# Altium integrated library TI_Logic_Specialty_Logic.IntLib: 2504 symbols (part 16 of 81)
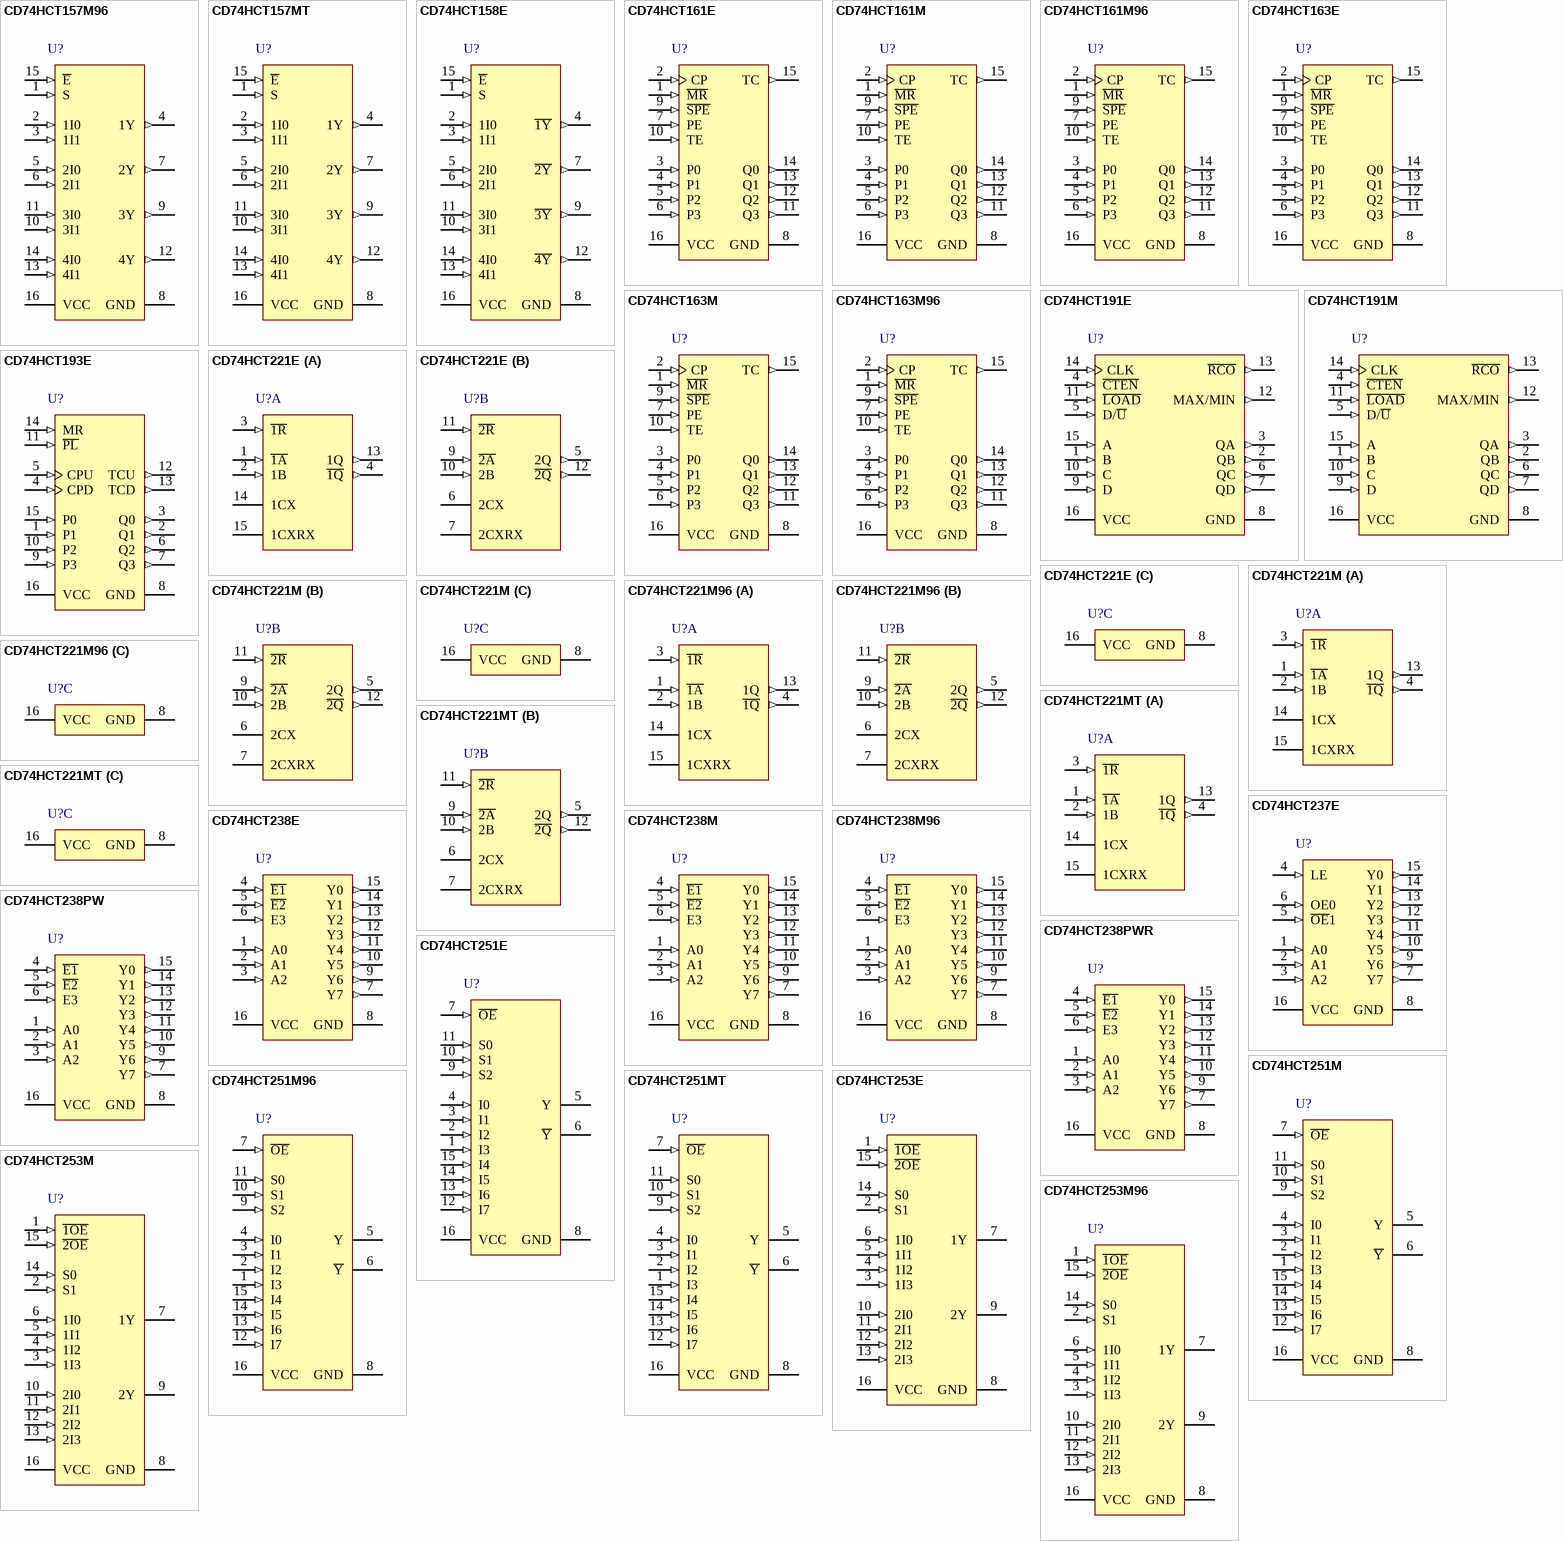
[diagram p119: symbols CD74HCT157M96 to CD74HCT253M96]

## CD74HCT238E
designator U?
High Speed CMOS Logic 3-to-8 Line Decoder Demultiplexer Inverting and Non-Inverting, N0016A, TUBE; Generic Part Number: CD74HCT238; Manufacturer: Texas Instruments; PartNumber: CD74HCT238E; VCC(Min)(V): 4.5; VCC(Max)(V): 5.5; Function: Decoder/Demultiplexer; ICC @ Nom Voltage(Max)(mA): 0.08; Input Type: TTL; Bits(#): 8; F @ Nom Voltage(Max)(Mhz): 25; Configuration: 3：8; Channels(#): 1; Rating: Catalog; Technology Family: HCT; Voltage(Nom)(V): 5; Schmitt Trigger: No; Output Drive (IOL/IOH)(Max)(mA): 4/-4; tpd @ Nom Voltage(Max)(ns): 35; DatasheetVersion: SCHS147I; PackageReference: N0016A; Supplier 1: Mouser; Supplier Part Number 1: 595-CD74HCT238E; Supplier 2: Digi-Key; Supplier Part Number 2: 296-2143-5-ND; Output Type: CMOS; Operating Temperature Range(C): -55 to 125; Type: Standard; Code_JEDEC: MS-001; ComponentLink1Description: Manufacturer URL; ComponentLink1URL: http://www.ti.com/; ComponentLink2Description: Datasheet; ComponentLink2URL: http://www.ti.com/lit/ds/symlink/cd74hct238.pdf; ComponentLink3Description: Package Specification; ComponentLink3URL: http://www.ti.com/lit/ml/mpdi002c/mpdi002c.pdf
footprint N0016A (DIP, 16-Leads, Body 19.7x6.6mm, Pitch 2.54mm)
pins: 1 A0 (in), 2 A1 (in), 3 A2 (in), 4 ~{E1} (in), 5 ~{E2} (in), 6 E3 (in), 7 Y7 (out), 8 GND (power), 9 Y6 (out), 10 Y5 (out), 11 Y4 (out), 12 Y3 (out), 13 Y2 (out), 14 Y1 (out), 15 Y0 (out), 16 VCC (power)

## CD74HCT238M
designator U?
High Speed CMOS Logic 3-to-8 Line Decoder Demultiplexer Inverting and Non-Inverting, D0016A, TUBE; Generic Part Number: CD74HCT238; Manufacturer: Texas Instruments; PartNumber: CD74HCT238M; VCC(Min)(V): 4.5; VCC(Max)(V): 5.5; Function: Decoder/Demultiplexer; ICC @ Nom Voltage(Max)(mA): 0.08; Input Type: TTL; Bits(#): 8; F @ Nom Voltage(Max)(Mhz): 25; Configuration: 3：8; Channels(#): 1; Rating: Catalog; Technology Family: HCT; Voltage(Nom)(V): 5; Schmitt Trigger: No; Output Drive (IOL/IOH)(Max)(mA): 4/-4; tpd @ Nom Voltage(Max)(ns): 35; DatasheetVersion: SCHS147I; PackageReference: D0016A; Supplier 1: Mouser; Supplier Part Number 1: 595-CD74HCT238M; Supplier 2: Digi-Key; Supplier Part Number 2: 296-26024-5-ND; Output Type: CMOS; Operating Temperature Range(C): -55 to 125; Type: Standard; Code_JEDEC: MS-012 variation AC; ComponentLink1Description: Manufacturer URL; ComponentLink1URL: http://www.ti.com/; ComponentLink2Description: Datasheet; ComponentLink2URL: http://www.ti.com/lit/ds/symlink/cd74hct238.pdf; ComponentLink3Description: Package Specification; ComponentLink3URL: http://www.ti.com/lit/ml/mpds178g/mpds178g.pdf
footprint D0016A_N (SOIC, 16-Leads, Body 10x4mm, Pitch 1.27mm, IPC Medium Density)
footprint D0016A_M (SOIC, 16-Leads, Body 10x4mm, Pitch 1.27mm, IPC Low Density)
footprint D0016A_L (SOIC, 16-Leads, Body 10x4mm, Pitch 1.27mm, IPC High Density)
pins: 1 A0 (in), 2 A1 (in), 3 A2 (in), 4 ~{E1} (in), 5 ~{E2} (in), 6 E3 (in), 7 Y7 (out), 8 GND (power), 9 Y6 (out), 10 Y5 (out), 11 Y4 (out), 12 Y3 (out), 13 Y2 (out), 14 Y1 (out), 15 Y0 (out), 16 VCC (power)

## CD74HCT238M96
designator U?
High Speed CMOS Logic 3-to-8 Line Decoder Demultiplexer Inverting and Non-Inverting, D0016A, LARGE T&R; Generic Part Number: CD74HCT238; Manufacturer: Texas Instruments; PartNumber: CD74HCT238M96; VCC(Min)(V): 4.5; VCC(Max)(V): 5.5; Function: Decoder/Demultiplexer; ICC @ Nom Voltage(Max)(mA): 0.08; Input Type: TTL; Bits(#): 8; F @ Nom Voltage(Max)(Mhz): 25; Configuration: 3：8; Channels(#): 1; Rating: Catalog; Technology Family: HCT; Voltage(Nom)(V): 5; Schmitt Trigger: No; Output Drive (IOL/IOH)(Max)(mA): 4/-4; tpd @ Nom Voltage(Max)(ns): 35; DatasheetVersion: SCHS147I; PackageReference: D0016A; Supplier 1: Mouser; Supplier Part Number 1: 595-CD74HCT238M96; Supplier 2: Digi-Key; Supplier Part Number 2: 296-17124-2-ND; Supplier 3: Digi-Key; Supplier Part Number 3: 296-17124-1-ND; Output Type: CMOS; Operating Temperature Range(C): -55 to 125; Type: Standard; Code_JEDEC: MS-012 variation AC; ComponentLink1Description: Manufacturer URL; ComponentLink1URL: http://www.ti.com/; ComponentLink2Description: Datasheet; ComponentLink2URL: http://www.ti.com/lit/ds/symlink/cd74hct238.pdf; ComponentLink3Description: Package Specification; ComponentLink3URL: http://www.ti.com/lit/ml/mpds178g/mpds178g.pdf
footprint D0016A_N (SOIC, 16-Leads, Body 10x4mm, Pitch 1.27mm, IPC Medium Density)
footprint D0016A_M (SOIC, 16-Leads, Body 10x4mm, Pitch 1.27mm, IPC Low Density)
footprint D0016A_L (SOIC, 16-Leads, Body 10x4mm, Pitch 1.27mm, IPC High Density)
pins: 1 A0 (in), 2 A1 (in), 3 A2 (in), 4 ~{E1} (in), 5 ~{E2} (in), 6 E3 (in), 7 Y7 (out), 8 GND (power), 9 Y6 (out), 10 Y5 (out), 11 Y4 (out), 12 Y3 (out), 13 Y2 (out), 14 Y1 (out), 15 Y0 (out), 16 VCC (power)

## CD74HCT238PW
designator U?
High Speed CMOS Logic 3-to-8 Line Decoder Demultiplexer Inverting and Non-Inverting, PW0016A, TUBE; Generic Part Number: CD74HCT238; Manufacturer: Texas Instruments; PartNumber: CD74HCT238PW; VCC(Min)(V): 4.5; VCC(Max)(V): 5.5; Function: Decoder/Demultiplexer; ICC @ Nom Voltage(Max)(mA): 0.08; Input Type: TTL; Bits(#): 8; F @ Nom Voltage(Max)(Mhz): 25; Configuration: 3：8; Channels(#): 1; Rating: Catalog; Technology Family: HCT; Voltage(Nom)(V): 5; Schmitt Trigger: No; Output Drive (IOL/IOH)(Max)(mA): 4/-4; tpd @ Nom Voltage(Max)(ns): 35; DatasheetVersion: SCHS147I; PackageReference: PW0016A; Supplier 1: Mouser; Supplier Part Number 1: 595-CD74HCT238PW; Supplier 2: Digi-Key; Supplier Part Number 2: 296-33139-5-ND; Output Type: CMOS; Operating Temperature Range(C): -55 to 125; Type: Standard; Code_JEDEC: MO-153; ComponentLink1Description: Manufacturer URL; ComponentLink1URL: http://www.ti.com/; ComponentLink2Description: Datasheet; ComponentLink2URL: http://www.ti.com/lit/ds/symlink/cd74hct238.pdf; ComponentLink3Description: Package Specification; ComponentLink3URL: http://www.ti.com/lit/ml/mpds361/mpds361.pdf
footprint PW0016A_N (SOP, 16-Leads, Body 5.1x4.5mm, Pitch 0.65mm, IPC Medium Density)
footprint PW0016A_M (SOP, 16-Leads, Body 5.1x4.5mm, Pitch 0.65mm, IPC Low Density)
footprint PW0016A_L (SOP, 16-Leads, Body 5.1x4.5mm, Pitch 0.65mm, IPC High Density)
pins: 1 A0 (in), 2 A1 (in), 3 A2 (in), 4 ~{E1} (in), 5 ~{E2} (in), 6 E3 (in), 7 Y7 (out), 8 GND (power), 9 Y6 (out), 10 Y5 (out), 11 Y4 (out), 12 Y3 (out), 13 Y2 (out), 14 Y1 (out), 15 Y0 (out), 16 VCC (power)

## CD74HCT238PWR
designator U?
High Speed CMOS Logic 3-to-8 Line Decoder Demultiplexer Inverting and Non-Inverting, PW0016A, LARGE T&R; Generic Part Number: CD74HCT238; Manufacturer: Texas Instruments; PartNumber: CD74HCT238PWR; VCC(Min)(V): 4.5; VCC(Max)(V): 5.5; Function: Decoder/Demultiplexer; ICC @ Nom Voltage(Max)(mA): 0.08; Input Type: TTL; Bits(#): 8; F @ Nom Voltage(Max)(Mhz): 25; Configuration: 3：8; Channels(#): 1; Rating: Catalog; Technology Family: HCT; Voltage(Nom)(V): 5; Schmitt Trigger: No; Output Drive (IOL/IOH)(Max)(mA): 4/-4; tpd @ Nom Voltage(Max)(ns): 35; DatasheetVersion: SCHS147I; PackageReference: PW0016A; Supplier 1: Mouser; Supplier Part Number 1: 595-CD74HCT238PWR; Supplier 2: Digi-Key; Supplier Part Number 2: 296-31606-2-ND; Supplier 3: Digi-Key; Supplier Part Number 3: 296-31606-1-ND; Supplier 4: Digi-Key; Supplier Part Number 4: 296-31606-6-ND; Output Type: CMOS; Operating Temperature Range(C): -55 to 125; Type: Standard; Code_JEDEC: MO-153; ComponentLink1Description: Manufacturer URL; ComponentLink1URL: http://www.ti.com/; ComponentLink2Description: Datasheet; ComponentLink2URL: http://www.ti.com/lit/ds/symlink/cd74hct238.pdf; ComponentLink3Description: Package Specification; ComponentLink3URL: http://www.ti.com/lit/ml/mpds361/mpds361.pdf
footprint PW0016A_N (SOP, 16-Leads, Body 5.1x4.5mm, Pitch 0.65mm, IPC Medium Density)
footprint PW0016A_M (SOP, 16-Leads, Body 5.1x4.5mm, Pitch 0.65mm, IPC Low Density)
footprint PW0016A_L (SOP, 16-Leads, Body 5.1x4.5mm, Pitch 0.65mm, IPC High Density)
pins: 1 A0 (in), 2 A1 (in), 3 A2 (in), 4 ~{E1} (in), 5 ~{E2} (in), 6 E3 (in), 7 Y7 (out), 8 GND (power), 9 Y6 (out), 10 Y5 (out), 11 Y4 (out), 12 Y3 (out), 13 Y2 (out), 14 Y1 (out), 15 Y0 (out), 16 VCC (power)

## CD74HCT251E
designator U?
High Speed CMOS Logic 8-Input Multiplexer, 3-State, N0016A, TUBE; Generic Part Number: CD74HCT251; Manufacturer: Texas Instruments; PartNumber: CD74HCT251E; VCC(Min)(V): 4.5; VCC(Max)(V): 5.5; Function: Encoder/Multiplexer; ICC @ Nom Voltage(Max)(mA): 0.08; Input Type: TTL; Bits(#): 8; F @ Nom Voltage(Max)(Mhz): 25; Configuration: 8：1; Channels(#): 1; Rating: Catalog; Technology Family: HCT; Voltage(Nom)(V): 5; Schmitt Trigger: No; Output Drive (IOL/IOH)(Max)(mA): 4/-4; tpd @ Nom Voltage(Max)(ns): 18; DatasheetVersion: SCHS169C; PackageReference: N0016A; Supplier 1: Mouser; Supplier Part Number 1: 595-CD74HCT251E; Supplier 2: Digi-Key; Supplier Part Number 2: 296-2106-5-ND; Output Type: CMOS; Operating Temperature Range(C): -55 to 125; Type: 3-State Output; Code_JEDEC: MS-001; ComponentLink1Description: Manufacturer URL; ComponentLink1URL: http://www.ti.com/; ComponentLink2Description: Datasheet; ComponentLink2URL: http://www.ti.com/lit/ds/symlink/cd74hct251.pdf; ComponentLink3Description: Package Specification; ComponentLink3URL: http://www.ti.com/lit/ml/mpdi002c/mpdi002c.pdf
footprint N0016A (DIP, 16-Leads, Body 19.7x6.6mm, Pitch 2.54mm)
pins: 1 I3 (in), 2 I2 (in), 3 I1 (in), 4 I0 (in), 5 Y (hiz), 6 ~{Y} (hiz), 7 ~{OE} (in), 8 GND (power), 9 S2 (in), 10 S1 (in), 11 S0 (in), 12 I7 (in), 13 I6 (in), 14 I5 (in), 15 I4 (in), 16 VCC (power)

## CD74HCT251M
designator U?
High Speed CMOS Logic 8-Input Multiplexer, 3-State, D0016A, TUBE; Generic Part Number: CD74HCT251; Manufacturer: Texas Instruments; PartNumber: CD74HCT251M; VCC(Min)(V): 4.5; VCC(Max)(V): 5.5; Function: Encoder/Multiplexer; ICC @ Nom Voltage(Max)(mA): 0.08; Input Type: TTL; Bits(#): 8; F @ Nom Voltage(Max)(Mhz): 25; Configuration: 8：1; Channels(#): 1; Rating: Catalog; Technology Family: HCT; Voltage(Nom)(V): 5; Schmitt Trigger: No; Output Drive (IOL/IOH)(Max)(mA): 4/-4; tpd @ Nom Voltage(Max)(ns): 18; DatasheetVersion: SCHS169C; PackageReference: D0016A; Supplier 1: Mouser; Supplier Part Number 1: 595-CD74HCT251M; Supplier 2: Digi-Key; Supplier Part Number 2: 296-26026-5-ND; Output Type: CMOS; Operating Temperature Range(C): -55 to 125; Type: 3-State Output; Code_JEDEC: MS-012 variation AC; ComponentLink1Description: Manufacturer URL; ComponentLink1URL: http://www.ti.com/; ComponentLink2Description: Datasheet; ComponentLink2URL: http://www.ti.com/lit/ds/symlink/cd74hct251.pdf; ComponentLink3Description: Package Specification; ComponentLink3URL: http://www.ti.com/lit/ml/mpds178g/mpds178g.pdf
footprint D0016A_N (SOIC, 16-Leads, Body 10x4mm, Pitch 1.27mm, IPC Medium Density)
footprint D0016A_M (SOIC, 16-Leads, Body 10x4mm, Pitch 1.27mm, IPC Low Density)
footprint D0016A_L (SOIC, 16-Leads, Body 10x4mm, Pitch 1.27mm, IPC High Density)
pins: 1 I3 (in), 2 I2 (in), 3 I1 (in), 4 I0 (in), 5 Y (hiz), 6 ~{Y} (hiz), 7 ~{OE} (in), 8 GND (power), 9 S2 (in), 10 S1 (in), 11 S0 (in), 12 I7 (in), 13 I6 (in), 14 I5 (in), 15 I4 (in), 16 VCC (power)

## CD74HCT251M96
designator U?
High Speed CMOS Logic 8-Input Multiplexer, 3-State, D0016A, LARGE T&R; Generic Part Number: CD74HCT251; Manufacturer: Texas Instruments; PartNumber: CD74HCT251M96; VCC(Min)(V): 4.5; VCC(Max)(V): 5.5; Function: Encoder/Multiplexer; ICC @ Nom Voltage(Max)(mA): 0.08; Input Type: TTL; Bits(#): 8; F @ Nom Voltage(Max)(Mhz): 25; Configuration: 8：1; Channels(#): 1; Rating: Catalog; Technology Family: HCT; Voltage(Nom)(V): 5; Schmitt Trigger: No; Output Drive (IOL/IOH)(Max)(mA): 4/-4; tpd @ Nom Voltage(Max)(ns): 18; DatasheetVersion: SCHS169C; PackageReference: D0016A; Supplier 1: Mouser; Supplier Part Number 1: 595-CD74HCT251M96; Supplier 2: Digi-Key; Supplier Part Number 2: 296-31607-2-ND; Supplier 3: Digi-Key; Supplier Part Number 3: 296-31607-1-ND; Supplier 4: Digi-Key; Supplier Part Number 4: 296-31607-6-ND; Output Type: CMOS; Operating Temperature Range(C): -55 to 125; Type: 3-State Output; Code_JEDEC: MS-012 variation AC; ComponentLink1Description: Manufacturer URL; ComponentLink1URL: http://www.ti.com/; ComponentLink2Description: Datasheet; ComponentLink2URL: http://www.ti.com/lit/ds/symlink/cd74hct251.pdf; ComponentLink3Description: Package Specification; ComponentLink3URL: http://www.ti.com/lit/ml/mpds178g/mpds178g.pdf
footprint D0016A_N (SOIC, 16-Leads, Body 10x4mm, Pitch 1.27mm, IPC Medium Density)
footprint D0016A_M (SOIC, 16-Leads, Body 10x4mm, Pitch 1.27mm, IPC Low Density)
footprint D0016A_L (SOIC, 16-Leads, Body 10x4mm, Pitch 1.27mm, IPC High Density)
pins: 1 I3 (in), 2 I2 (in), 3 I1 (in), 4 I0 (in), 5 Y (hiz), 6 ~{Y} (hiz), 7 ~{OE} (in), 8 GND (power), 9 S2 (in), 10 S1 (in), 11 S0 (in), 12 I7 (in), 13 I6 (in), 14 I5 (in), 15 I4 (in), 16 VCC (power)

## CD74HCT251MT
designator U?
High Speed CMOS Logic 8-Input Multiplexer, 3-State, D0016A, SMALL T&R; Generic Part Number: CD74HCT251; Manufacturer: Texas Instruments; PartNumber: CD74HCT251MT; VCC(Min)(V): 4.5; VCC(Max)(V): 5.5; Function: Encoder/Multiplexer; ICC @ Nom Voltage(Max)(mA): 0.08; Input Type: TTL; Bits(#): 8; F @ Nom Voltage(Max)(Mhz): 25; Configuration: 8：1; Channels(#): 1; Rating: Catalog; Technology Family: HCT; Voltage(Nom)(V): 5; Schmitt Trigger: No; Output Drive (IOL/IOH)(Max)(mA): 4/-4; tpd @ Nom Voltage(Max)(ns): 18; DatasheetVersion: SCHS169C; PackageReference: D0016A; Supplier 1: Mouser; Supplier Part Number 1: 595-CD74HCT251MT; Supplier 2: Digi-Key; Supplier Part Number 2: CD74HCT251MT-ND; Output Type: CMOS; Operating Temperature Range(C): -55 to 125; Type: 3-State Output; Code_JEDEC: MS-012 variation AC; ComponentLink1Description: Manufacturer URL; ComponentLink1URL: http://www.ti.com/; ComponentLink2Description: Datasheet; ComponentLink2URL: http://www.ti.com/lit/ds/symlink/cd74hct251.pdf; ComponentLink3Description: Package Specification; ComponentLink3URL: http://www.ti.com/lit/ml/mpds178g/mpds178g.pdf
footprint D0016A_N (SOIC, 16-Leads, Body 10x4mm, Pitch 1.27mm, IPC Medium Density)
footprint D0016A_M (SOIC, 16-Leads, Body 10x4mm, Pitch 1.27mm, IPC Low Density)
footprint D0016A_L (SOIC, 16-Leads, Body 10x4mm, Pitch 1.27mm, IPC High Density)
pins: 1 I3 (in), 2 I2 (in), 3 I1 (in), 4 I0 (in), 5 Y (hiz), 6 ~{Y} (hiz), 7 ~{OE} (in), 8 GND (power), 9 S2 (in), 10 S1 (in), 11 S0 (in), 12 I7 (in), 13 I6 (in), 14 I5 (in), 15 I4 (in), 16 VCC (power)

## CD74HCT253E
designator U?
High Speed CMOS Logic Dual 4-Input Multiplexers, N0016A, TUBE; Generic Part Number: CD74HCT253; Manufacturer: Texas Instruments; PartNumber: CD74HCT253E; VCC(Min)(V): 4.5; VCC(Max)(V): 5.5; Function: Encoder/Multiplexer; ICC @ Nom Voltage(Max)(mA): 0.08; Input Type: TTL; Bits(#): 4; F @ Nom Voltage(Max)(Mhz): 25; Configuration: 4：1; Channels(#): 2; Rating: Catalog; Technology Family: HCT; Voltage(Nom)(V): 5; Schmitt Trigger: No; Output Drive (IOL/IOH)(Max)(mA): 4/-4; tpd @ Nom Voltage(Max)(ns): 50; DatasheetVersion: SCHS170B; PackageReference: N0016A; Supplier 1: Mouser; Supplier Part Number 1: 595-CD74HCT253E; Supplier 2: Digi-Key; Supplier Part Number 2: 296-2107-5-ND; Output Type: CMOS; Operating Temperature Range(C): -55 to 125; Type: 3-State Output; Code_JEDEC: MS-001; ComponentLink1Description: Manufacturer URL; ComponentLink1URL: http://www.ti.com/; ComponentLink2Description: Datasheet; ComponentLink2URL: http://www.ti.com/lit/ds/symlink/cd74hct253.pdf; ComponentLink3Description: Package Specification; ComponentLink3URL: http://www.ti.com/lit/ml/mpdi002c/mpdi002c.pdf
footprint N0016A (DIP, 16-Leads, Body 19.7x6.6mm, Pitch 2.54mm)
pins: 1 ~{1OE} (in), 2 S1 (in), 3 1I3 (in), 4 1I2 (in), 5 1I1 (in), 6 1I0 (in), 7 1Y (hiz), 8 GND (power), 9 2Y (hiz), 10 2I0 (in), 11 2I1 (in), 12 2I2 (in), 13 2I3 (in), 14 S0 (in), 15 ~{2OE} (in), 16 VCC (power)

## CD74HCT253M
designator U?
High Speed CMOS Logic Dual 4-Input Multiplexers, D0016A, TUBE; Generic Part Number: CD74HCT253; Manufacturer: Texas Instruments; PartNumber: CD74HCT253M; VCC(Min)(V): 4.5; VCC(Max)(V): 5.5; Function: Encoder/Multiplexer; ICC @ Nom Voltage(Max)(mA): 0.08; Input Type: TTL; Bits(#): 4; F @ Nom Voltage(Max)(Mhz): 25; Configuration: 4：1; Channels(#): 2; Rating: Catalog; Technology Family: HCT; Voltage(Nom)(V): 5; Schmitt Trigger: No; Output Drive (IOL/IOH)(Max)(mA): 4/-4; tpd @ Nom Voltage(Max)(ns): 50; DatasheetVersion: SCHS170B; PackageReference: D0016A; Supplier 1: Mouser; Supplier Part Number 1: 595-CD74HCT253M; Supplier 2: Digi-Key; Supplier Part Number 2: 296-9265-5-ND; Output Type: CMOS; Operating Temperature Range(C): -55 to 125; Type: 3-State Output; Code_JEDEC: MS-012 variation AC; ComponentLink1Description: Manufacturer URL; ComponentLink1URL: http://www.ti.com/; ComponentLink2Description: Datasheet; ComponentLink2URL: http://www.ti.com/lit/ds/symlink/cd74hct253.pdf; ComponentLink3Description: Package Specification; ComponentLink3URL: http://www.ti.com/lit/ml/mpds178g/mpds178g.pdf
footprint D0016A_N (SOIC, 16-Leads, Body 10x4mm, Pitch 1.27mm, IPC Medium Density)
footprint D0016A_M (SOIC, 16-Leads, Body 10x4mm, Pitch 1.27mm, IPC Low Density)
footprint D0016A_L (SOIC, 16-Leads, Body 10x4mm, Pitch 1.27mm, IPC High Density)
pins: 1 ~{1OE} (in), 2 S1 (in), 3 1I3 (in), 4 1I2 (in), 5 1I1 (in), 6 1I0 (in), 7 1Y (hiz), 8 GND (power), 9 2Y (hiz), 10 2I0 (in), 11 2I1 (in), 12 2I2 (in), 13 2I3 (in), 14 S0 (in), 15 ~{2OE} (in), 16 VCC (power)

## CD74HCT253M96
designator U?
High Speed CMOS Logic Dual 4-Input Multiplexers, D0016A, LARGE T&R; Generic Part Number: CD74HCT253; Manufacturer: Texas Instruments; PartNumber: CD74HCT253M96; VCC(Min)(V): 4.5; VCC(Max)(V): 5.5; Function: Encoder/Multiplexer; ICC @ Nom Voltage(Max)(mA): 0.08; Input Type: TTL; Bits(#): 4; F @ Nom Voltage(Max)(Mhz): 25; Configuration: 4：1; Channels(#): 2; Rating: Catalog; Technology Family: HCT; Voltage(Nom)(V): 5; Schmitt Trigger: No; Output Drive (IOL/IOH)(Max)(mA): 4/-4; tpd @ Nom Voltage(Max)(ns): 50; DatasheetVersion: SCHS170B; PackageReference: D0016A; Supplier 1: Mouser; Supplier Part Number 1: 595-CD74HCT253M96; Supplier 2: Digi-Key; Supplier Part Number 2: CD74HCT253M96-ND; Output Type: CMOS; Operating Temperature Range(C): -55 to 125; Type: 3-State Output; Code_JEDEC: MS-012 variation AC; ComponentLink1Description: Manufacturer URL; ComponentLink1URL: http://www.ti.com/; ComponentLink2Description: Datasheet; ComponentLink2URL: http://www.ti.com/lit/ds/symlink/cd74hct253.pdf; ComponentLink3Description: Package Specification; ComponentLink3URL: http://www.ti.com/lit/ml/mpds178g/mpds178g.pdf
footprint D0016A_N (SOIC, 16-Leads, Body 10x4mm, Pitch 1.27mm, IPC Medium Density)
footprint D0016A_M (SOIC, 16-Leads, Body 10x4mm, Pitch 1.27mm, IPC Low Density)
footprint D0016A_L (SOIC, 16-Leads, Body 10x4mm, Pitch 1.27mm, IPC High Density)
pins: 1 ~{1OE} (in), 2 S1 (in), 3 1I3 (in), 4 1I2 (in), 5 1I1 (in), 6 1I0 (in), 7 1Y (hiz), 8 GND (power), 9 2Y (hiz), 10 2I0 (in), 11 2I1 (in), 12 2I2 (in), 13 2I3 (in), 14 S0 (in), 15 ~{2OE} (in), 16 VCC (power)

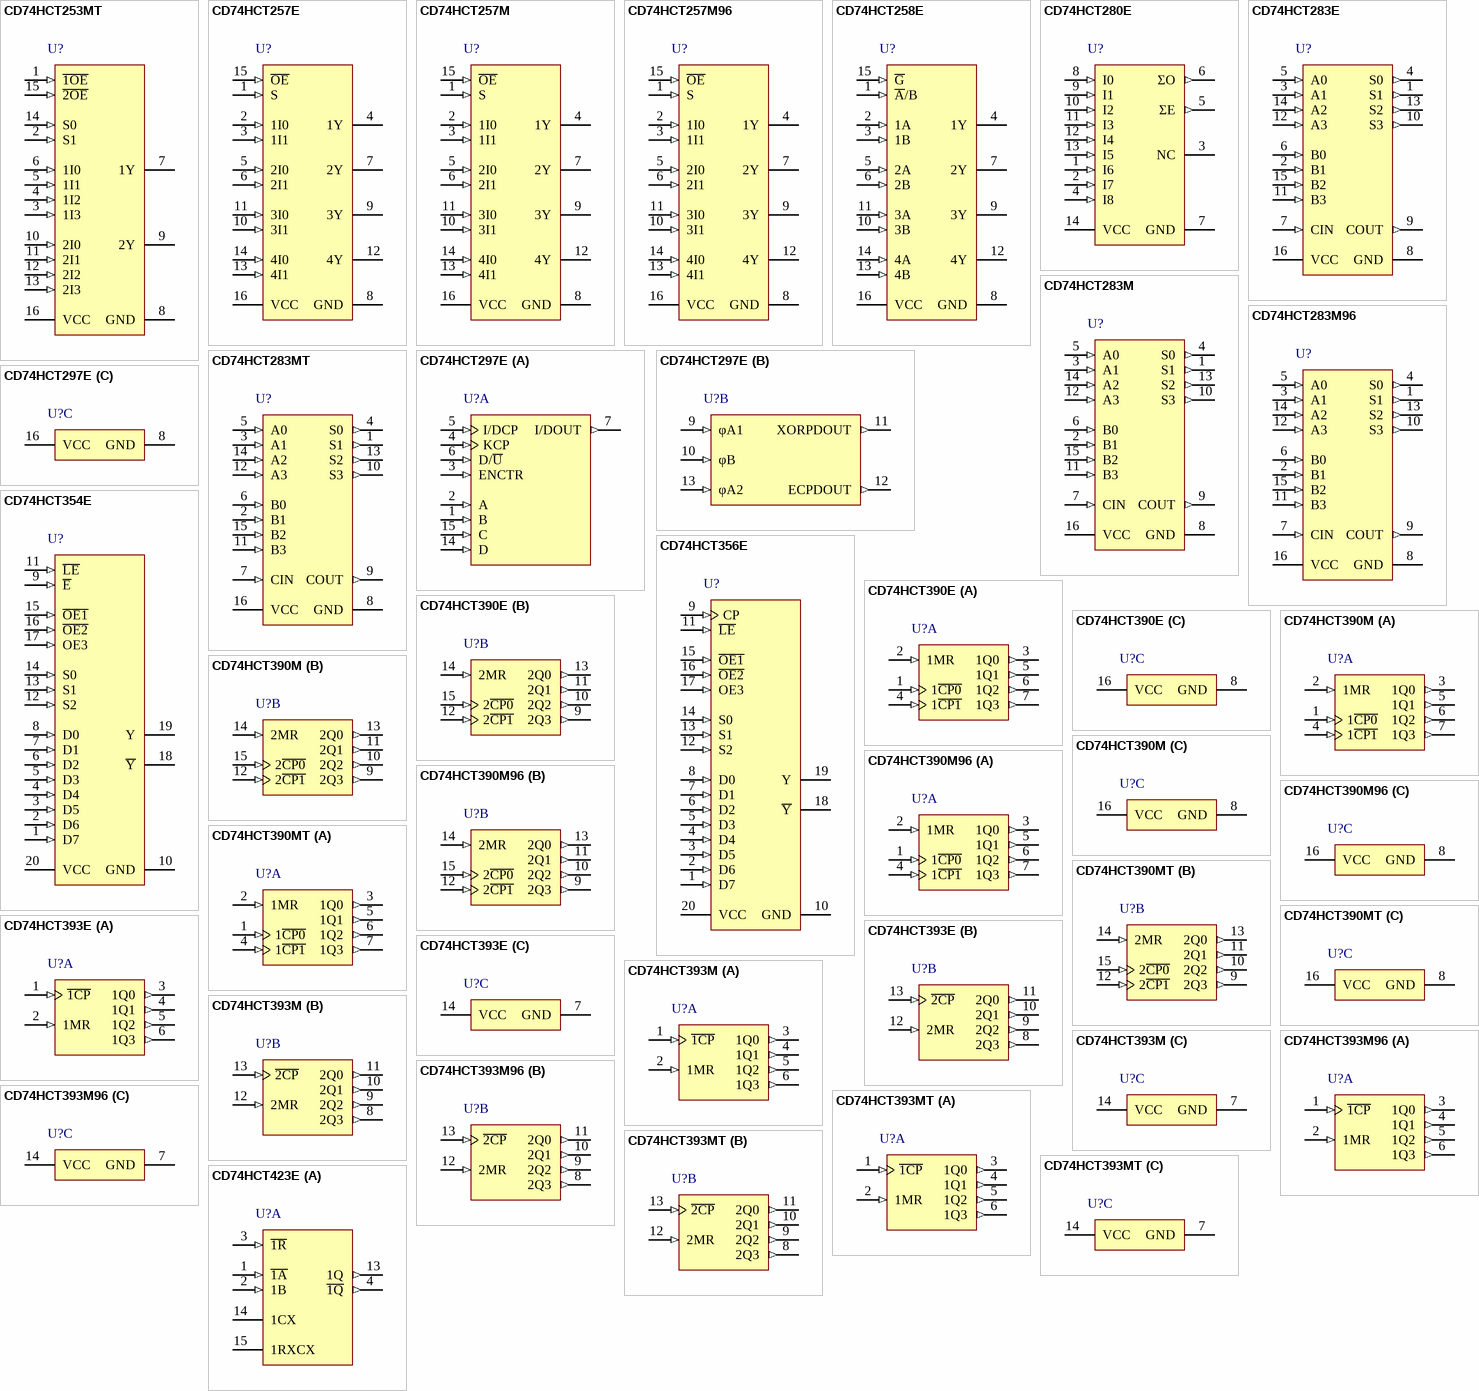
[diagram p20: symbols CD74HCT253MT to CD74HCT423E]

## CD74HCT253MT
designator U?
High Speed CMOS Logic Dual 4-Input Multiplexers, D0016A, SMALL T&R; Generic Part Number: CD74HCT253; Manufacturer: Texas Instruments; PartNumber: CD74HCT253MT; VCC(Min)(V): 4.5; VCC(Max)(V): 5.5; Function: Encoder/Multiplexer; ICC @ Nom Voltage(Max)(mA): 0.08; Input Type: TTL; Bits(#): 4; F @ Nom Voltage(Max)(Mhz): 25; Configuration: 4：1; Channels(#): 2; Rating: Catalog; Technology Family: HCT; Voltage(Nom)(V): 5; Schmitt Trigger: No; Output Drive (IOL/IOH)(Max)(mA): 4/-4; tpd @ Nom Voltage(Max)(ns): 50; DatasheetVersion: SCHS170B; PackageReference: D0016A; Supplier 1: Mouser; Supplier Part Number 1: 595-CD74HCT253MT; Supplier 2: Digi-Key; Supplier Part Number 2: CD74HCT253MT-ND; Output Type: CMOS; Operating Temperature Range(C): -55 to 125; Type: 3-State Output; Code_JEDEC: MS-012 variation AC; ComponentLink1Description: Manufacturer URL; ComponentLink1URL: http://www.ti.com/; ComponentLink2Description: Datasheet; ComponentLink2URL: http://www.ti.com/lit/ds/symlink/cd74hct253.pdf; ComponentLink3Description: Package Specification; ComponentLink3URL: http://www.ti.com/lit/ml/mpds178g/mpds178g.pdf
footprint D0016A_N (SOIC, 16-Leads, Body 10x4mm, Pitch 1.27mm, IPC Medium Density)
footprint D0016A_M (SOIC, 16-Leads, Body 10x4mm, Pitch 1.27mm, IPC Low Density)
footprint D0016A_L (SOIC, 16-Leads, Body 10x4mm, Pitch 1.27mm, IPC High Density)
pins: 1 ~{1OE} (in), 2 S1 (in), 3 1I3 (in), 4 1I2 (in), 5 1I1 (in), 6 1I0 (in), 7 1Y (hiz), 8 GND (power), 9 2Y (hiz), 10 2I0 (in), 11 2I1 (in), 12 2I2 (in), 13 2I3 (in), 14 S0 (in), 15 ~{2OE} (in), 16 VCC (power)

## CD74HCT257E
designator U?
High Speed CMOS Logic Quad 2-Input Multiplexers with Non-Inverting 3-State Outputs, N0016A, TUBE; Generic Part Number: CD74HCT257; Manufacturer: Texas Instruments; PartNumber: CD74HCT257E; VCC(Min)(V): 4.5; VCC(Max)(V): 5.5; Function: Encoder/Multiplexer; ICC @ Nom Voltage(Max)(mA): 0.08; Input Type: TTL; Bits(#): 2; F @ Nom Voltage(Max)(Mhz): 25; Configuration: 2：1; Channels(#): 4; Rating: Catalog; Technology Family: HCT; Voltage(Nom)(V): 5; Schmitt Trigger: No; Output Drive (IOL/IOH)(Max)(mA): 6/-6; tpd @ Nom Voltage(Max)(ns): 41; DatasheetVersion: SCHS171D; PackageReference: N0016A; Supplier 1: Mouser; Supplier Part Number 1: 595-CD74HCT257E; Supplier 2: Digi-Key; Supplier Part Number 2: 296-2108-5-ND; Output Type: CMOS; Operating Temperature Range(C): -55 to 125; Type: 3-State Output; Code_JEDEC: MS-001; ComponentLink1Description: Manufacturer URL; ComponentLink1URL: http://www.ti.com/; ComponentLink2Description: Datasheet; ComponentLink2URL: http://www.ti.com/lit/ds/symlink/cd74hct257.pdf; ComponentLink3Description: Package Specification; ComponentLink3URL: http://www.ti.com/lit/ml/mpdi002c/mpdi002c.pdf
footprint N0016A (DIP, 16-Leads, Body 19.7x6.6mm, Pitch 2.54mm)
pins: 1 S (in), 2 1I0 (in), 3 1I1 (in), 4 1Y (hiz), 5 2I0 (in), 6 2I1 (in), 7 2Y (hiz), 8 GND (power), 9 3Y (hiz), 10 3I1 (in), 11 3I0 (in), 12 4Y (hiz), 13 4I1 (in), 14 4I0 (in), 15 ~{OE} (in), 16 VCC (power)

## CD74HCT257M
designator U?
High Speed CMOS Logic Quad 2-Input Multiplexers with Non-Inverting 3-State Outputs, D0016A, TUBE; Generic Part Number: CD74HCT257; Manufacturer: Texas Instruments; PartNumber: CD74HCT257M; VCC(Min)(V): 4.5; VCC(Max)(V): 5.5; Function: Encoder/Multiplexer; ICC @ Nom Voltage(Max)(mA): 0.08; Input Type: TTL; Bits(#): 2; F @ Nom Voltage(Max)(Mhz): 25; Configuration: 2：1; Channels(#): 4; Rating: Catalog; Technology Family: HCT; Voltage(Nom)(V): 5; Schmitt Trigger: No; Output Drive (IOL/IOH)(Max)(mA): 6/-6; tpd @ Nom Voltage(Max)(ns): 41; DatasheetVersion: SCHS171D; PackageReference: D0016A; Supplier 1: Mouser; Supplier Part Number 1: 595-CD74HCT257M; Supplier 2: Digi-Key; Supplier Part Number 2: 296-33141-5-ND; Output Type: CMOS; Operating Temperature Range(C): -55 to 125; Type: 3-State Output; Code_JEDEC: MS-012 variation AC; ComponentLink1Description: Manufacturer URL; ComponentLink1URL: http://www.ti.com/; ComponentLink2Description: Datasheet; ComponentLink2URL: http://www.ti.com/lit/ds/symlink/cd74hct257.pdf; ComponentLink3Description: Package Specification; ComponentLink3URL: http://www.ti.com/lit/ml/mpds178g/mpds178g.pdf
footprint D0016A_N (SOIC, 16-Leads, Body 10x4mm, Pitch 1.27mm, IPC Medium Density)
footprint D0016A_M (SOIC, 16-Leads, Body 10x4mm, Pitch 1.27mm, IPC Low Density)
footprint D0016A_L (SOIC, 16-Leads, Body 10x4mm, Pitch 1.27mm, IPC High Density)
pins: 1 S (in), 2 1I0 (in), 3 1I1 (in), 4 1Y (hiz), 5 2I0 (in), 6 2I1 (in), 7 2Y (hiz), 8 GND (power), 9 3Y (hiz), 10 3I1 (in), 11 3I0 (in), 12 4Y (hiz), 13 4I1 (in), 14 4I0 (in), 15 ~{OE} (in), 16 VCC (power)

## CD74HCT257M96
designator U?
High Speed CMOS Logic Quad 2-Input Multiplexers with Non-Inverting 3-State Outputs, D0016A, LARGE T&R; Generic Part Number: CD74HCT257; Manufacturer: Texas Instruments; PartNumber: CD74HCT257M96; VCC(Min)(V): 4.5; VCC(Max)(V): 5.5; Function: Encoder/Multiplexer; ICC @ Nom Voltage(Max)(mA): 0.08; Input Type: TTL; Bits(#): 2; F @ Nom Voltage(Max)(Mhz): 25; Configuration: 2：1; Channels(#): 4; Rating: Catalog; Technology Family: HCT; Voltage(Nom)(V): 5; Schmitt Trigger: No; Output Drive (IOL/IOH)(Max)(mA): 6/-6; tpd @ Nom Voltage(Max)(ns): 41; DatasheetVersion: SCHS171D; PackageReference: D0016A; Supplier 1: Mouser; Supplier Part Number 1: 595-CD74HCT257M96; Supplier 2: Digi-Key; Supplier Part Number 2: CD74HCT257M96-ND; Output Type: CMOS; Operating Temperature Range(C): -55 to 125; Type: 3-State Output; Code_JEDEC: MS-012 variation AC; ComponentLink1Description: Manufacturer URL; ComponentLink1URL: http://www.ti.com/; ComponentLink2Description: Datasheet; ComponentLink2URL: http://www.ti.com/lit/ds/symlink/cd74hct257.pdf; ComponentLink3Description: Package Specification; ComponentLink3URL: http://www.ti.com/lit/ml/mpds178g/mpds178g.pdf
footprint D0016A_N (SOIC, 16-Leads, Body 10x4mm, Pitch 1.27mm, IPC Medium Density)
footprint D0016A_M (SOIC, 16-Leads, Body 10x4mm, Pitch 1.27mm, IPC Low Density)
footprint D0016A_L (SOIC, 16-Leads, Body 10x4mm, Pitch 1.27mm, IPC High Density)
pins: 1 S (in), 2 1I0 (in), 3 1I1 (in), 4 1Y (hiz), 5 2I0 (in), 6 2I1 (in), 7 2Y (hiz), 8 GND (power), 9 3Y (hiz), 10 3I1 (in), 11 3I0 (in), 12 4Y (hiz), 13 4I1 (in), 14 4I0 (in), 15 ~{OE} (in), 16 VCC (power)

## CD74HCT258E
designator U?
High Speed CMOS Logic Quad 2-Input Multiplexers with Inverting 3-State Outputs, N0016A, TUBE; Generic Part Number: CD74HCT258; Manufacturer: Texas Instruments; PartNumber: CD74HCT258E; VCC(Min)(V): 4.5; VCC(Max)(V): 5.5; Function: Encoder/Multiplexer; ICC @ Nom Voltage(Max)(mA): 0.08; Input Type: TTL; Bits(#): 2; F @ Nom Voltage(Max)(Mhz): 25; Configuration: 2：1; Channels(#): 4; Rating: Catalog; Technology Family: HCT; Voltage(Nom)(V): 5; Schmitt Trigger: No; Output Drive (IOL/IOH)(Max)(mA): 6/-6; tpd @ Nom Voltage(Max)(ns): 38; DatasheetVersion: SCHS276A; PackageReference: N0016A; Supplier 1: Mouser; Supplier Part Number 1: 595-CD74HCT258E; Supplier 2: Digi-Key; Supplier Part Number 2: 296-2146-5-ND; Output Type: CMOS; Operating Temperature Range(C): -55 to 125; Type: 3-State Output; Code_JEDEC: MS-001; ComponentLink1Description: Manufacturer URL; ComponentLink1URL: http://www.ti.com/; ComponentLink2Description: Datasheet; ComponentLink2URL: http://www.ti.com/lit/ds/symlink/cd74hct258.pdf; ComponentLink3Description: Package Specification; ComponentLink3URL: http://www.ti.com/lit/ml/mpdi002c/mpdi002c.pdf
footprint N0016A (DIP, 16-Leads, Body 19.7x6.6mm, Pitch 2.54mm)
pins: 1 ~{A}/B (in), 2 1A (in), 3 1B (in), 4 1Y (hiz), 5 2A (in), 6 2B (in), 7 2Y (hiz), 8 GND (power), 9 3Y (hiz), 10 3B (in), 11 3A (in), 12 4Y (hiz), 13 4B (in), 14 4A (in), 15 ~{G} (in), 16 VCC (power)

## CD74HCT280E
designator U?
High Speed CMOS Logic 9-Bit Odd/Even Parity Generator/Checker, N0014A, TUBE; Generic Part Number: CD74HCT280; Manufacturer: Texas Instruments; PartNumber: CD74HCT280E; VCC(Min)(V): 4.5; VCC(Max)(V): 5.5; Inputs: 9; ICC @ Nom Voltage(Max)(mA): 0.08; Input Type: TTL; Bits(#): 2; F @ Nom Voltage(Max)(Mhz): 25; Rating: Catalog; Technology Family: HCT; Voltage(Nom)(V): 5; Schmitt Trigger: No; Output Drive (IOL/IOH)(Max)(mA): 4/-4; tpd @ Nom Voltage(Max)(ns): 56; DatasheetVersion: SCHS175D; PackageReference: N0014A; Supplier 1: Mouser; Supplier Part Number 1: 595-CD74HCT280E; Supplier 2: Digi-Key; Supplier Part Number 2: 296-2147-5-ND; Output Type: CMOS; Function: Parity; Operating Temperature Range(C): -55 to 125; Type: Other; Code_JEDEC: MS-001; ComponentLink1Description: Manufacturer URL; ComponentLink1URL: http://www.ti.com/; ComponentLink2Description: Datasheet; ComponentLink2URL: http://www.ti.com/lit/ds/symlink/cd74hct280.pdf; ComponentLink3Description: Package Specification; ComponentLink3URL: http://www.ti.com/lit/ml/mpdi002c/mpdi002c.pdf
footprint N0014A (DIP, 14-Leads, Body 19.7x6.6mm, Pitch 2.54mm)
pins: 1 I6 (in), 2 I7 (in), 3 NC, 4 I8 (in), 5 ΣE (out), 6 ΣO (out), 7 GND (power), 8 I0 (in), 9 I1 (in), 10 I2 (in), 11 I3 (in), 12 I4 (in), 13 I5 (in), 14 VCC (power)

## CD74HCT283E
designator U?
High Speed CMOS Logic 4-Bit Binary Full Adder with Fast Carry, N0016A, TUBE; Generic Part Number: CD74HCT283; Manufacturer: Texas Instruments; PartNumber: CD74HCT283E; VCC(Min)(V): 4.5; VCC(Max)(V): 5.5; Inputs: 9; Function: Arithmetic; ICC @ Nom Voltage(Max)(mA): 0.08; Input Type: TTL; Bits(#): 4; F @ Nom Voltage(Max)(Mhz): 25; Rating: Catalog; Technology Family: HCT; Voltage(Nom)(V): 5; Schmitt Trigger: No; Output Drive (IOL/IOH)(Max)(mA): 4/-4; tpd @ Nom Voltage(Max)(ns): 60; DatasheetVersion: SCHS176D; PackageReference: N0016A; Supplier 1: Mouser; Supplier Part Number 1: 595-CD74HCT283E; Supplier 2: Digi-Key; Supplier Part Number 2: 296-33143-5-ND; Output Type: CMOS; Operating Temperature Range(C): -55 to 125; Type: Binary; Code_JEDEC: MS-001; ComponentLink1Description: Manufacturer URL; ComponentLink1URL: http://www.ti.com/; ComponentLink2Description: Datasheet; ComponentLink2URL: http://www.ti.com/lit/ds/symlink/cd74hct283.pdf; ComponentLink3Description: Package Specification; ComponentLink3URL: http://www.ti.com/lit/ml/mpdi002c/mpdi002c.pdf
footprint N0016A (DIP, 16-Leads, Body 19.7x6.6mm, Pitch 2.54mm)
pins: 1 S1 (out), 2 B1 (in), 3 A1 (in), 4 S0 (out), 5 A0 (in), 6 B0 (in), 7 CIN (in), 8 GND (power), 9 COUT (out), 10 S3 (out), 11 B3 (in), 12 A3 (in), 13 S2 (out), 14 A2 (in), 15 B2 (in), 16 VCC (power)

## CD74HCT283M
designator U?
High Speed CMOS Logic 4-Bit Binary Full Adder with Fast Carry, D0016A, TUBE; Generic Part Number: CD74HCT283; Manufacturer: Texas Instruments; PartNumber: CD74HCT283M; VCC(Min)(V): 4.5; VCC(Max)(V): 5.5; Inputs: 9; Function: Arithmetic; ICC @ Nom Voltage(Max)(mA): 0.08; Input Type: TTL; Bits(#): 4; F @ Nom Voltage(Max)(Mhz): 25; Rating: Catalog; Technology Family: HCT; Voltage(Nom)(V): 5; Schmitt Trigger: No; Output Drive (IOL/IOH)(Max)(mA): 4/-4; tpd @ Nom Voltage(Max)(ns): 60; DatasheetVersion: SCHS176D; PackageReference: D0016A; Supplier 1: Mouser; Supplier Part Number 1: 595-CD74HCT283M; Supplier 2: Digi-Key; Supplier Part Number 2: 296-33144-5-ND; Output Type: CMOS; Operating Temperature Range(C): -55 to 125; Type: Binary; Code_JEDEC: MS-012 variation AC; ComponentLink1Description: Manufacturer URL; ComponentLink1URL: http://www.ti.com/; ComponentLink2Description: Datasheet; ComponentLink2URL: http://www.ti.com/lit/ds/symlink/cd74hct283.pdf; ComponentLink3Description: Package Specification; ComponentLink3URL: http://www.ti.com/lit/ml/mpds178g/mpds178g.pdf
footprint D0016A_N (SOIC, 16-Leads, Body 10x4mm, Pitch 1.27mm, IPC Medium Density)
footprint D0016A_M (SOIC, 16-Leads, Body 10x4mm, Pitch 1.27mm, IPC Low Density)
footprint D0016A_L (SOIC, 16-Leads, Body 10x4mm, Pitch 1.27mm, IPC High Density)
pins: 1 S1 (out), 2 B1 (in), 3 A1 (in), 4 S0 (out), 5 A0 (in), 6 B0 (in), 7 CIN (in), 8 GND (power), 9 COUT (out), 10 S3 (out), 11 B3 (in), 12 A3 (in), 13 S2 (out), 14 A2 (in), 15 B2 (in), 16 VCC (power)

## CD74HCT283M96
designator U?
High Speed CMOS Logic 4-Bit Binary Full Adder with Fast Carry, D0016A, LARGE T&R; Generic Part Number: CD74HCT283; Manufacturer: Texas Instruments; PartNumber: CD74HCT283M96; VCC(Min)(V): 4.5; VCC(Max)(V): 5.5; Inputs: 9; Function: Arithmetic; ICC @ Nom Voltage(Max)(mA): 0.08; Input Type: TTL; Bits(#): 4; F @ Nom Voltage(Max)(Mhz): 25; Rating: Catalog; Technology Family: HCT; Voltage(Nom)(V): 5; Schmitt Trigger: No; Output Drive (IOL/IOH)(Max)(mA): 4/-4; tpd @ Nom Voltage(Max)(ns): 60; DatasheetVersion: SCHS176D; PackageReference: D0016A; Supplier 1: Mouser; Supplier Part Number 1: 595-CD74HCT283M96; Supplier 2: Digi-Key; Supplier Part Number 2: 296-31609-2-ND; Supplier 3: Digi-Key; Supplier Part Number 3: 296-31609-1-ND; Supplier 4: Digi-Key; Supplier Part Number 4: 296-31609-6-ND; Output Type: CMOS; Operating Temperature Range(C): -55 to 125; Type: Binary; Code_JEDEC: MS-012 variation AC; ComponentLink1Description: Manufacturer URL; ComponentLink1URL: http://www.ti.com/; ComponentLink2Description: Datasheet; ComponentLink2URL: http://www.ti.com/lit/ds/symlink/cd74hct283.pdf; ComponentLink3Description: Package Specification; ComponentLink3URL: http://www.ti.com/lit/ml/mpds178g/mpds178g.pdf
footprint D0016A_N (SOIC, 16-Leads, Body 10x4mm, Pitch 1.27mm, IPC Medium Density)
footprint D0016A_M (SOIC, 16-Leads, Body 10x4mm, Pitch 1.27mm, IPC Low Density)
footprint D0016A_L (SOIC, 16-Leads, Body 10x4mm, Pitch 1.27mm, IPC High Density)
pins: 1 S1 (out), 2 B1 (in), 3 A1 (in), 4 S0 (out), 5 A0 (in), 6 B0 (in), 7 CIN (in), 8 GND (power), 9 COUT (out), 10 S3 (out), 11 B3 (in), 12 A3 (in), 13 S2 (out), 14 A2 (in), 15 B2 (in), 16 VCC (power)

## CD74HCT283MT
designator U?
High Speed CMOS Logic 4-Bit Binary Full Adder with Fast Carry, D0016A, SMALL T&R; Generic Part Number: CD74HCT283; Manufacturer: Texas Instruments; PartNumber: CD74HCT283MT; VCC(Min)(V): 4.5; VCC(Max)(V): 5.5; Inputs: 9; Function: Arithmetic; ICC @ Nom Voltage(Max)(mA): 0.08; Input Type: TTL; Bits(#): 4; F @ Nom Voltage(Max)(Mhz): 25; Rating: Catalog; Technology Family: HCT; Voltage(Nom)(V): 5; Schmitt Trigger: No; Output Drive (IOL/IOH)(Max)(mA): 4/-4; tpd @ Nom Voltage(Max)(ns): 60; DatasheetVersion: SCHS176D; PackageReference: D0016A; Supplier 1: Mouser; Supplier Part Number 1: 595-CD74HCT283MT; Supplier 2: Digi-Key; Supplier Part Number 2: CD74HCT283MT-ND; Output Type: CMOS; Operating Temperature Range(C): -55 to 125; Type: Binary; Code_JEDEC: MS-012 variation AC; ComponentLink1Description: Manufacturer URL; ComponentLink1URL: http://www.ti.com/; ComponentLink2Description: Datasheet; ComponentLink2URL: http://www.ti.com/lit/ds/symlink/cd74hct283.pdf; ComponentLink3Description: Package Specification; ComponentLink3URL: http://www.ti.com/lit/ml/mpds178g/mpds178g.pdf
footprint D0016A_N (SOIC, 16-Leads, Body 10x4mm, Pitch 1.27mm, IPC Medium Density)
footprint D0016A_M (SOIC, 16-Leads, Body 10x4mm, Pitch 1.27mm, IPC Low Density)
footprint D0016A_L (SOIC, 16-Leads, Body 10x4mm, Pitch 1.27mm, IPC High Density)
pins: 1 S1 (out), 2 B1 (in), 3 A1 (in), 4 S0 (out), 5 A0 (in), 6 B0 (in), 7 CIN (in), 8 GND (power), 9 COUT (out), 10 S3 (out), 11 B3 (in), 12 A3 (in), 13 S2 (out), 14 A2 (in), 15 B2 (in), 16 VCC (power)

## CD74HCT297E
designator U?
High Speed CMOS Logic Digital Phase-Locked-Loop, N0016A, TUBE; Generic Part Number: CD74HCT297; Manufacturer: Texas Instruments; PartNumber: CD74HCT297E; VCC(Min)(V): 4.5; VCC(Max)(V): 5.5; ICC @ Nom Voltage(Max)(mA): 0.08; Input Type: TTL; Bits(#): 1; F @ Nom Voltage(Max)(Mhz): 25; Rating: Catalog; Technology Family: HCT; Voltage(Nom)(V): 5; Schmitt Trigger: No; Output Drive (IOL/IOH)(Max)(mA): 4/-4; tpd @ Nom Voltage(Max)(ns): 50; DatasheetVersion: SCHS177B; PackageReference: N0016A; Supplier 1: Mouser; Supplier Part Number 1: 595-CD74HCT297E; Supplier 2: Digi-Key; Supplier Part Number 2: 296-33145-5-ND; Output Type: CMOS; Operating Temperature Range(C): -55 to 125; ComponentLink1Description: Manufacturer URL; ComponentLink1URL: http://www.ti.com/; ComponentLink2Description: Datasheet; ComponentLink2URL: http://www.ti.com/lit/ds/symlink/cd74hct297.pdf
footprint N0016A (DIP, 16-Leads, Body 19.7x6.6mm, Pitch 2.54mm)
part A pins: 1 B (in), 2 A (in), 3 ENCTR (in), 4 KCP (in), 5 I/DCP (in), 6 D/~{U} (in), 7 I/DOUT (out), 14 D (in), 15 C (in)
part B pins: 9 φA1 (in), 10 φB (in), 11 XORPDOUT (out), 12 ECPDOUT (out), 13 φA2 (in)
part C pins: 8 GND (power), 16 VCC (power)

## CD74HCT354E
designator U?
High Speed CMOS Logic 8-Input Multiplexer/Register with 3-State Outputs, N0020A, TUBE; Generic Part Number: CD74HCT354; Manufacturer: Texas Instruments; PartNumber: CD74HCT354E; VCC(Min)(V): 4.5; VCC(Max)(V): 5.5; Function: Encoder/Multiplexer; ICC @ Nom Voltage(Max)(mA): 0.08; Input Type: TTL; Bits(#): 8; F @ Nom Voltage(Max)(Mhz): 25; Configuration: 8：1; Channels(#): 1; Rating: Catalog; Technology Family: HCT; Voltage(Nom)(V): 5; Schmitt Trigger: No; Output Drive (IOL/IOH)(Max)(mA): 4/-4; tpd @ Nom Voltage(Max)(ns): 20; DatasheetVersion: SCHS277D; PackageReference: N0020A; Supplier 1: Mouser; Supplier Part Number 1: 595-CD74HCT354E; Supplier 2: Digi-Key; Supplier Part Number 2: 296-33147-5-ND; Output Type: CMOS; Operating Temperature Range(C): -55 to 125; Type: 3-State Output; Code_JEDEC: MS-001; ComponentLink1Description: Manufacturer URL; ComponentLink1URL: http://www.ti.com/; ComponentLink2Description: Datasheet; ComponentLink2URL: http://www.ti.com/lit/ds/symlink/cd74hct354.pdf; ComponentLink3Description: Package Specification; ComponentLink3URL: http://www.ti.com/lit/ml/mpdi002c/mpdi002c.pdf
footprint N0020A (DIP, 20-Leads, Body 26.9x6.6mm, Pitch 2.54mm)
pins: 1 D7 (in), 2 D6 (in), 3 D5 (in), 4 D4 (in), 5 D3 (in), 6 D2 (in), 7 D1 (in), 8 D0 (in), 9 ~{E} (in), 10 GND (power), 11 ~{LE} (in), 12 S2 (in), 13 S1 (in), 14 S0 (in), 15 ~{OE1} (in), 16 ~{OE2} (in), 17 OE3 (in), 18 ~{Y} (hiz), 19 Y (hiz), 20 VCC (power)

## CD74HCT356E
designator U?
High Speed CMOS Logic 8-Input Multiplexer/Register with 3-State Outputs, N0020A, TUBE; Generic Part Number: CD74HCT356; Manufacturer: Texas Instruments; PartNumber: CD74HCT356E; VCC(Min)(V): 4.5; VCC(Max)(V): 5.5; Function: Encoder/Multiplexer; ICC @ Nom Voltage(Max)(mA): 0.08; Input Type: TTL; Bits(#): 8; F @ Nom Voltage(Max)(Mhz): 25; Configuration: 8：1; Channels(#): 1; Rating: Catalog; Technology Family: HCT; Voltage(Nom)(V): 5; Schmitt Trigger: No; Output Drive (IOL/IOH)(Max)(mA): 4/-4; tpd @ Nom Voltage(Max)(ns): 51; DatasheetVersion: SCLS459A; PackageReference: N0020A; Supplier 1: Mouser; Supplier Part Number 1: 595-CD74HCT356E; Supplier 2: Digi-Key; Supplier Part Number 2: 296-2148-5-ND; Output Type: CMOS; Operating Temperature Range(C): -55 to 125; Type: 3-State Output; Code_JEDEC: MS-001; ComponentLink1Description: Manufacturer URL; ComponentLink1URL: http://www.ti.com/; ComponentLink2Description: Datasheet; ComponentLink2URL: http://www.ti.com/lit/ds/symlink/cd74hct356.pdf; ComponentLink3Description: Package Specification; ComponentLink3URL: http://www.ti.com/lit/ml/mpdi002c/mpdi002c.pdf
footprint N0020A (DIP, 20-Leads, Body 26.9x6.6mm, Pitch 2.54mm)
pins: 1 D7 (in), 2 D6 (in), 3 D5 (in), 4 D4 (in), 5 D3 (in), 6 D2 (in), 7 D1 (in), 8 D0 (in), 9 CP (in), 10 GND (power), 11 ~{LE} (in), 12 S2 (in), 13 S1 (in), 14 S0 (in), 15 ~{OE1} (in), 16 ~{OE2} (in), 17 OE3 (in), 18 ~{Y} (hiz), 19 Y (hiz), 20 VCC (power)

## CD74HCT390E
designator U?
High Speed CMOS Logic Dual Decade Ripple Counter, N0016A, TUBE; Generic Part Number: CD74HCT390; Manufacturer: Texas Instruments; PartNumber: CD74HCT390E; VCC(Min)(V): 4.5; VCC(Max)(V): 5.5; Inputs: 1; ICC @ Nom Voltage(Max)(mA): 0.08; Input Type: TTL; Bits(#): 4; F @ Nom Voltage(Max)(Mhz): 25; Rating: Catalog; Technology Family: HCT; Voltage(Nom)(V): 5; Schmitt Trigger: No; Output Drive (IOL/IOH)(Max)(mA): 4/-4; tpd @ Nom Voltage(Max)(ns): 69; DatasheetVersion: SCHS185C; PackageReference: N0016A; Supplier 1: Mouser; Supplier Part Number 1: 595-CD74HCT390E; Supplier 2: Digi-Key; Supplier Part Number 2: 296-33152-5-ND; Output Type: CMOS; Function: Counter; Operating Temperature Range(C): -55 to 125; Type: Decade; Code_JEDEC: MS-001; ComponentLink1Description: Manufacturer URL; ComponentLink1URL: http://www.ti.com/; ComponentLink2Description: Datasheet; ComponentLink2URL: http://www.ti.com/lit/ds/symlink/cd74hct390.pdf; ComponentLink3Description: Package Specification; ComponentLink3URL: http://www.ti.com/lit/ml/mpdi002c/mpdi002c.pdf
footprint N0016A (DIP, 16-Leads, Body 19.7x6.6mm, Pitch 2.54mm)
part A pins: 1 1~{CP0} (in), 2 1MR (in), 3 1Q0 (out), 4 1~{CP1} (in), 5 1Q1 (out), 6 1Q2 (out), 7 1Q3 (out)
part B pins: 9 2Q3 (out), 10 2Q2 (out), 11 2Q1 (out), 12 2~{CP1} (in), 13 2Q0 (out), 14 2MR (in), 15 2~{CP0} (in)
part C pins: 8 GND (power), 16 VCC (power)

## CD74HCT390M
designator U?
High Speed CMOS Logic Dual Decade Ripple Counter, D0016A, TUBE; Generic Part Number: CD74HCT390; Manufacturer: Texas Instruments; PartNumber: CD74HCT390M; VCC(Min)(V): 4.5; VCC(Max)(V): 5.5; Inputs: 1; ICC @ Nom Voltage(Max)(mA): 0.08; Input Type: TTL; Bits(#): 4; F @ Nom Voltage(Max)(Mhz): 25; Rating: Catalog; Technology Family: HCT; Voltage(Nom)(V): 5; Schmitt Trigger: No; Output Drive (IOL/IOH)(Max)(mA): 4/-4; tpd @ Nom Voltage(Max)(ns): 69; DatasheetVersion: SCHS185C; PackageReference: D0016A; Supplier 1: Mouser; Supplier Part Number 1: 595-CD74HCT390M; Supplier 2: Digi-Key; Supplier Part Number 2: 296-9270-5-ND; Output Type: CMOS; Function: Counter; Operating Temperature Range(C): -55 to 125; Type: Decade; Code_JEDEC: MS-012 variation AC; ComponentLink1Description: Manufacturer URL; ComponentLink1URL: http://www.ti.com/; ComponentLink2Description: Datasheet; ComponentLink2URL: http://www.ti.com/lit/ds/symlink/cd74hct390.pdf; ComponentLink3Description: Package Specification; ComponentLink3URL: http://www.ti.com/lit/ml/mpds178g/mpds178g.pdf
footprint D0016A_N (SOIC, 16-Leads, Body 10x4mm, Pitch 1.27mm, IPC Medium Density)
footprint D0016A_M (SOIC, 16-Leads, Body 10x4mm, Pitch 1.27mm, IPC Low Density)
footprint D0016A_L (SOIC, 16-Leads, Body 10x4mm, Pitch 1.27mm, IPC High Density)
part A pins: 1 1~{CP0} (in), 2 1MR (in), 3 1Q0 (out), 4 1~{CP1} (in), 5 1Q1 (out), 6 1Q2 (out), 7 1Q3 (out)
part B pins: 9 2Q3 (out), 10 2Q2 (out), 11 2Q1 (out), 12 2~{CP1} (in), 13 2Q0 (out), 14 2MR (in), 15 2~{CP0} (in)
part C pins: 8 GND (power), 16 VCC (power)

## CD74HCT390M96
designator U?
High Speed CMOS Logic Dual Decade Ripple Counter, D0016A, LARGE T&R; Generic Part Number: CD74HCT390; Manufacturer: Texas Instruments; PartNumber: CD74HCT390M96; VCC(Min)(V): 4.5; VCC(Max)(V): 5.5; Inputs: 1; ICC @ Nom Voltage(Max)(mA): 0.08; Input Type: TTL; Bits(#): 4; F @ Nom Voltage(Max)(Mhz): 25; Rating: Catalog; Technology Family: HCT; Voltage(Nom)(V): 5; Schmitt Trigger: No; Output Drive (IOL/IOH)(Max)(mA): 4/-4; tpd @ Nom Voltage(Max)(ns): 69; DatasheetVersion: SCHS185C; PackageReference: D0016A; Supplier 1: Mouser; Supplier Part Number 1: 595-CD74HCT390M96; Supplier 2: Digi-Key; Supplier Part Number 2: 296-31615-2-ND; Supplier 3: Digi-Key; Supplier Part Number 3: 296-31615-1-ND; Supplier 4: Digi-Key; Supplier Part Number 4: 296-31615-6-ND; Output Type: CMOS; Function: Counter; Operating Temperature Range(C): -55 to 125; Type: Decade; Code_JEDEC: MS-012 variation AC; ComponentLink1Description: Manufacturer URL; ComponentLink1URL: http://www.ti.com/; ComponentLink2Description: Datasheet; ComponentLink2URL: http://www.ti.com/lit/ds/symlink/cd74hct390.pdf; ComponentLink3Description: Package Specification; ComponentLink3URL: http://www.ti.com/lit/ml/mpds178g/mpds178g.pdf
footprint D0016A_N (SOIC, 16-Leads, Body 10x4mm, Pitch 1.27mm, IPC Medium Density)
footprint D0016A_M (SOIC, 16-Leads, Body 10x4mm, Pitch 1.27mm, IPC Low Density)
footprint D0016A_L (SOIC, 16-Leads, Body 10x4mm, Pitch 1.27mm, IPC High Density)
part A pins: 1 1~{CP0} (in), 2 1MR (in), 3 1Q0 (out), 4 1~{CP1} (in), 5 1Q1 (out), 6 1Q2 (out), 7 1Q3 (out)
part B pins: 9 2Q3 (out), 10 2Q2 (out), 11 2Q1 (out), 12 2~{CP1} (in), 13 2Q0 (out), 14 2MR (in), 15 2~{CP0} (in)
part C pins: 8 GND (power), 16 VCC (power)

## CD74HCT390MT
designator U?
High Speed CMOS Logic Dual Decade Ripple Counter, D0016A, SMALL T&R; Generic Part Number: CD74HCT390; Manufacturer: Texas Instruments; PartNumber: CD74HCT390MT; VCC(Min)(V): 4.5; VCC(Max)(V): 5.5; Inputs: 1; ICC @ Nom Voltage(Max)(mA): 0.08; Input Type: TTL; Bits(#): 4; F @ Nom Voltage(Max)(Mhz): 25; Rating: Catalog; Technology Family: HCT; Voltage(Nom)(V): 5; Schmitt Trigger: No; Output Drive (IOL/IOH)(Max)(mA): 4/-4; tpd @ Nom Voltage(Max)(ns): 69; DatasheetVersion: SCHS185C; PackageReference: D0016A; Supplier 1: Mouser; Supplier Part Number 1: 595-CD74HCT390MT; Supplier 2: Digi-Key; Supplier Part Number 2: CD74HCT390MT-ND; Output Type: CMOS; Function: Counter; Operating Temperature Range(C): -55 to 125; Type: Decade; Code_JEDEC: MS-012 variation AC; ComponentLink1Description: Manufacturer URL; ComponentLink1URL: http://www.ti.com/; ComponentLink2Description: Datasheet; ComponentLink2URL: http://www.ti.com/lit/ds/symlink/cd74hct390.pdf; ComponentLink3Description: Package Specification; ComponentLink3URL: http://www.ti.com/lit/ml/mpds178g/mpds178g.pdf
footprint D0016A_N (SOIC, 16-Leads, Body 10x4mm, Pitch 1.27mm, IPC Medium Density)
footprint D0016A_M (SOIC, 16-Leads, Body 10x4mm, Pitch 1.27mm, IPC Low Density)
footprint D0016A_L (SOIC, 16-Leads, Body 10x4mm, Pitch 1.27mm, IPC High Density)
part A pins: 1 1~{CP0} (in), 2 1MR (in), 3 1Q0 (out), 4 1~{CP1} (in), 5 1Q1 (out), 6 1Q2 (out), 7 1Q3 (out)
part B pins: 9 2Q3 (out), 10 2Q2 (out), 11 2Q1 (out), 12 2~{CP1} (in), 13 2Q0 (out), 14 2MR (in), 15 2~{CP0} (in)
part C pins: 8 GND (power), 16 VCC (power)

## CD74HCT393E
designator U?
High Speed CMOS Logic Dual 4-Stage Binary Counter, N0014A, TUBE; Generic Part Number: CD74HCT393; Manufacturer: Texas Instruments; PartNumber: CD74HCT393E; VCC(Min)(V): 4.5; VCC(Max)(V): 5.5; Inputs: 1; ICC @ Nom Voltage(Max)(mA): 0.08; Input Type: TTL; Bits(#): 4; F @ Nom Voltage(Max)(Mhz): 25; Rating: Catalog; Technology Family: HCT; Voltage(Nom)(V): 5; Schmitt Trigger: No; Output Drive (IOL/IOH)(Max)(mA): 4/-4; tpd @ Nom Voltage(Max)(ns): 78; DatasheetVersion: SCHS186E; PackageReference: N0014A; Supplier 1: Mouser; Supplier Part Number 1: 595-CD74HCT393E; Supplier 2: Digi-Key; Supplier Part Number 2: 296-2116-5-ND; Output Type: CMOS; Function: Counter; Operating Temperature Range(C): -55 to 125; Type: Binary; Code_JEDEC: MS-001; ComponentLink1Description: Manufacturer URL; ComponentLink1URL: http://www.ti.com/; ComponentLink2Description: Datasheet; ComponentLink2URL: http://www.ti.com/lit/ds/symlink/cd74hct393.pdf; ComponentLink3Description: Package Specification; ComponentLink3URL: http://www.ti.com/lit/ml/mpdi002c/mpdi002c.pdf
footprint N0014A (DIP, 14-Leads, Body 19.7x6.6mm, Pitch 2.54mm)
part A pins: 1 ~{1CP} (in), 2 1MR (in), 3 1Q0 (out), 4 1Q1 (out), 5 1Q2 (out), 6 1Q3 (out)
part B pins: 8 2Q3 (out), 9 2Q2 (out), 10 2Q1 (out), 11 2Q0 (out), 12 2MR (in), 13 ~{2CP} (in)
part C pins: 7 GND (power), 14 VCC (power)

## CD74HCT393M
designator U?
High Speed CMOS Logic Dual 4-Stage Binary Counter, D0014A, TUBE; Generic Part Number: CD74HCT393; Manufacturer: Texas Instruments; PartNumber: CD74HCT393M; VCC(Min)(V): 4.5; VCC(Max)(V): 5.5; Inputs: 1; ICC @ Nom Voltage(Max)(mA): 0.08; Input Type: TTL; Bits(#): 4; F @ Nom Voltage(Max)(Mhz): 25; Rating: Catalog; Technology Family: HCT; Voltage(Nom)(V): 5; Schmitt Trigger: No; Output Drive (IOL/IOH)(Max)(mA): 4/-4; tpd @ Nom Voltage(Max)(ns): 78; DatasheetVersion: SCHS186E; PackageReference: D0014A; Supplier 1: Mouser; Supplier Part Number 1: 595-CD74HCT393M; Supplier 2: Digi-Key; Supplier Part Number 2: 296-9271-5-ND; Output Type: CMOS; Function: Counter; Operating Temperature Range(C): -55 to 125; Type: Binary; Code_JEDEC: MS-012; ComponentLink1Description: Manufacturer URL; ComponentLink1URL: http://www.ti.com/; ComponentLink2Description: Datasheet; ComponentLink2URL: http://www.ti.com/lit/ds/symlink/cd74hct393.pdf; ComponentLink3Description: Package Specification; ComponentLink3URL: http://www.ti.com/lit/ml/mpds177g/mpds177g.pdf
footprint D0014A_N (SOIC, 14-Leads, Body 8.75x4mm, Pitch 1.27mm, IPC Medium Density)
footprint D0014A_M (SOIC, 14-Leads, Body 8.75x4mm, Pitch 1.27mm, IPC Low Density)
footprint D0014A_L (SOIC, 14-Leads, Body 8.75x4mm, Pitch 1.27mm, IPC High Density)
part A pins: 1 ~{1CP} (in), 2 1MR (in), 3 1Q0 (out), 4 1Q1 (out), 5 1Q2 (out), 6 1Q3 (out)
part B pins: 8 2Q3 (out), 9 2Q2 (out), 10 2Q1 (out), 11 2Q0 (out), 12 2MR (in), 13 ~{2CP} (in)
part C pins: 7 GND (power), 14 VCC (power)

## CD74HCT393M96
designator U?
High Speed CMOS Logic Dual 4-Stage Binary Counter, D0014A, LARGE T&R; Generic Part Number: CD74HCT393; Manufacturer: Texas Instruments; PartNumber: CD74HCT393M96; VCC(Min)(V): 4.5; VCC(Max)(V): 5.5; Inputs: 1; ICC @ Nom Voltage(Max)(mA): 0.08; Input Type: TTL; Bits(#): 4; F @ Nom Voltage(Max)(Mhz): 25; Rating: Catalog; Technology Family: HCT; Voltage(Nom)(V): 5; Schmitt Trigger: No; Output Drive (IOL/IOH)(Max)(mA): 4/-4; tpd @ Nom Voltage(Max)(ns): 78; DatasheetVersion: SCHS186E; PackageReference: D0014A; Supplier 1: Mouser; Supplier Part Number 1: 595-CD74HCT393M96; Supplier 2: Digi-Key; Supplier Part Number 2: 296-14556-2-ND; Supplier 3: Digi-Key; Supplier Part Number 3: 296-14556-1-ND; Supplier 4: Digi-Key; Supplier Part Number 4: 296-14556-6-ND; Output Type: CMOS; Function: Counter; Operating Temperature Range(C): -55 to 125; Type: Binary; Code_JEDEC: MS-012; ComponentLink1Description: Manufacturer URL; ComponentLink1URL: http://www.ti.com/; ComponentLink2Description: Datasheet; ComponentLink2URL: http://www.ti.com/lit/ds/symlink/cd74hct393.pdf; ComponentLink3Description: Package Specification; ComponentLink3URL: http://www.ti.com/lit/ml/mpds177g/mpds177g.pdf
footprint D0014A_N (SOIC, 14-Leads, Body 8.75x4mm, Pitch 1.27mm, IPC Medium Density)
footprint D0014A_M (SOIC, 14-Leads, Body 8.75x4mm, Pitch 1.27mm, IPC Low Density)
footprint D0014A_L (SOIC, 14-Leads, Body 8.75x4mm, Pitch 1.27mm, IPC High Density)
part A pins: 1 ~{1CP} (in), 2 1MR (in), 3 1Q0 (out), 4 1Q1 (out), 5 1Q2 (out), 6 1Q3 (out)
part B pins: 8 2Q3 (out), 9 2Q2 (out), 10 2Q1 (out), 11 2Q0 (out), 12 2MR (in), 13 ~{2CP} (in)
part C pins: 7 GND (power), 14 VCC (power)